# EAGLE library part CY8C3866PVI-070 (library Cypress_By_element14_Batch_1)
Programmable System-on-Chip
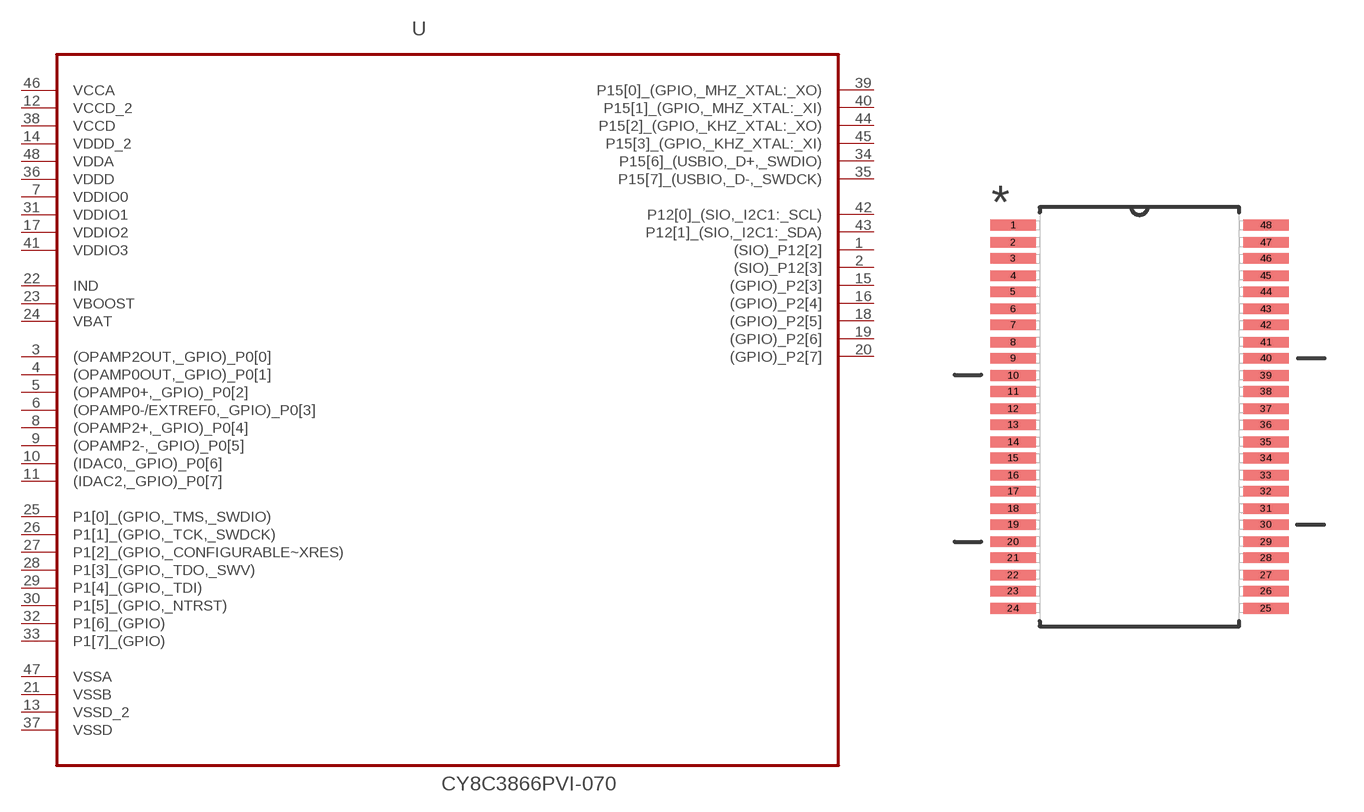
[diagram p21: symbol with the pads of SOP63P1066X233-48N; footprint SOP63P1066X233-48N]

Designator prefix U

## CY8C3866PVI-070 (DESCRIPTION: Programmable System-on-Chip; MPN: CY8C3866PVI-070; OC_FARNELL: -; OC_NEWARK: 14T2628; PACKAGE: TSSOP-48; SUPPLIER: CYPRESS SEMICONDUCTOR)  [SOP63P1066X233-48N]
1  (SIO)_P12[2]
2  (SIO)_P12[3]
3  (OPAMP2OUT,_GPIO)_P0[0]
4  (OPAMP0OUT,_GPIO)_P0[1]
5  (OPAMP0+,_GPIO)_P0[2]
6  (OPAMP0-/EXTREF0,_GPIO)_P0[3]
7  VDDIO0  pwr
8  (OPAMP2+,_GPIO)_P0[4]
9  (OPAMP2-,_GPIO)_P0[5]
10  (IDAC0,_GPIO)_P0[6]
11  (IDAC2,_GPIO)_P0[7]
12  VCCD_2  pwr
13  VSSD_2  pwr
14  VDDD_2  pwr
15  (GPIO)_P2[3]
16  (GPIO)_P2[4]
17  VDDIO2  pwr
18  (GPIO)_P2[5]
19  (GPIO)_P2[6]
20  (GPIO)_P2[7]
21  VSSB  pwr
22  IND  in
23  VBOOST  pwr
24  VBAT  in
25  P1[0]_(GPIO,_TMS,_SWDIO)
26  P1[1]_(GPIO,_TCK,_SWDCK)
27  P1[2]_(GPIO,_CONFIGURABLE~XRES)
28  P1[3]_(GPIO,_TDO,_SWV)
29  P1[4]_(GPIO,_TDI)
30  P1[5]_(GPIO,_NTRST)
31  VDDIO1  pwr
32  P1[6]_(GPIO)
33  P1[7]_(GPIO)
34  P15[6]_(USBIO,_D+,_SWDIO)
35  P15[7]_(USBIO,_D-,_SWDCK)
36  VDDD  pwr
37  VSSD  pwr
38  VCCD  pwr
39  P15[0]_(GPIO,_MHZ_XTAL:_XO)
40  P15[1]_(GPIO,_MHZ_XTAL:_XI)
41  VDDIO3  pwr
42  P12[0]_(SIO,_I2C1:_SCL)
43  P12[1]_(SIO,_I2C1:_SDA)
44  P15[2]_(GPIO,_KHZ_XTAL:_XO)
45  P15[3]_(GPIO,_KHZ_XTAL:_XI)
46  VCCA  pwr
47  VSSA  pwr
48  VDDA  pwr

## Footprint SOP63P1066X233-48N (pad centres in mm)
smd 1.727 x 0.406: 1 -4.826,7.315; 2 -4.826,6.655; 3 -4.826,6.045; 4 -4.826,5.385; 5 -4.826,4.775; 6 -4.826,4.115; 7 -4.826,3.505; 8 -4.826,2.845; 9 -4.826,2.235; 10 -4.826,1.575; 11 -4.826,0.965; 12 -4.826,0.305; 13 -4.826,-0.305; 14 -4.826,-0.965; 15 -4.826,-1.575; 16 -4.826,-2.235; 17 -4.826,-2.845; 18 -4.826,-3.505; 19 -4.826,-4.115; 20 -4.826,-4.775; 21 -4.826,-5.385; 22 -4.826,-6.045; 23 -4.826,-6.655; 24 -4.826,-7.315; 25 4.826,-7.315; 26 4.826,-6.655; 27 4.826,-6.045; 28 4.826,-5.385; 29 4.826,-4.775; 30 4.826,-4.115; 31 4.826,-3.505; 32 4.826,-2.845; 33 4.826,-2.235; 34 4.826,-1.575; 35 4.826,-0.965; 36 4.826,-0.305; 37 4.826,0.305; 38 4.826,0.965; 39 4.826,1.575; 40 4.826,2.235; 41 4.826,2.845; 42 4.826,3.505; 43 4.826,4.115; 44 4.826,4.775; 45 4.826,5.385; 46 4.826,6.045; 47 4.826,6.655; 48 4.826,7.315